# Altium footprint library SOT223.PcbLib: 1 footprints
Each footprint in its own frame and in the unit in brackets; x right, y up, seen from the top. Pads: shape width x height; smd on the part's side, far side on the other; paste and mask are expansions set on the pad; w line width, h text height; cw(c..) or ccw(c..) is an arc to the next point about the centre after c.
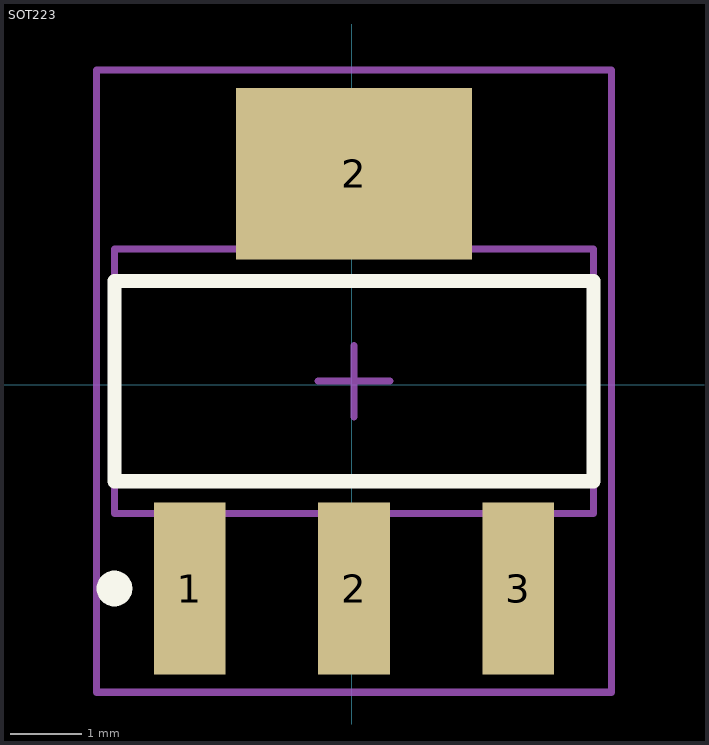
[diagram p0: the footprint, top view; thin cyan lines are the x and y axes]

## SOT223 [mm]
pads (4):
  rect 1x2.4 smd: 1(-2.269,-2.85) 2(0.031,-2.85) 3(2.331,-2.85)
  rect 3.3x2.4 smd: 2(0.031,2.95)
Top Overlay:
  circle w0.25: c-3.319,-2.85 r0.125
  lines w0.2: -3.319,-1.35 -3.319,1.45 3.381,1.45 3.381,-1.35 -3.319,-1.35
Mechanical 13:
  lines w0.1: -3.319,-1.8 -3.319,1.9 3.381,1.9 3.381,-1.8 -3.319,-1.8
Mechanical 15:
  lines w0.1: -0.469,0.05 0.531,0.05 ; 0.031,-0.45 0.031,0.55 ; -3.569,-4.3 -3.569,4.4 3.631,4.4 3.631,-4.3 -3.569,-4.3
3D body: height 1.64, standoff -0.04, extent -3.211,-3.44 3.273,3.54